# EAGLE library part D_BAS70D (library we-rcl)
BAS70 Diode Array (2x series Schottky) If=50mA, Vf=1.5V, Vr=70V, 2pF@1MHz
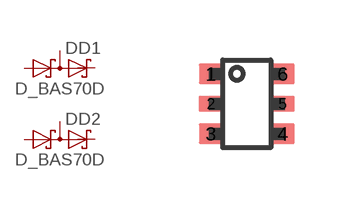
[diagram p0: symbol with the pads of SOT363; footprint SOT363]

Designator prefix D; gates D1=DIODE_ACAC D2=DIODE_ACAC

## D_BAS70D  [SOT363]
1  D1:A  pas
2  D1:C  pas
3  D2:CA  pas
4  D2:A  pas
5  D2:C  pas
6  D1:CA  pas

## Footprint SOT363 (pad centres in mm)
smd 0.6 x 0.5: 1 -0.9,0.75; 3 -0.9,-0.75; 4 0.9,-0.75; 6 0.9,0.75
smd 0.6 x 0.4: 2 -0.9,0; 5 0.9,0